# EAGLE library part CC2520 (library chipcon-ti-V2)
2.4 GHZ IEEE 802.15.4/ZIGBEE® RF TRANSCEIVER
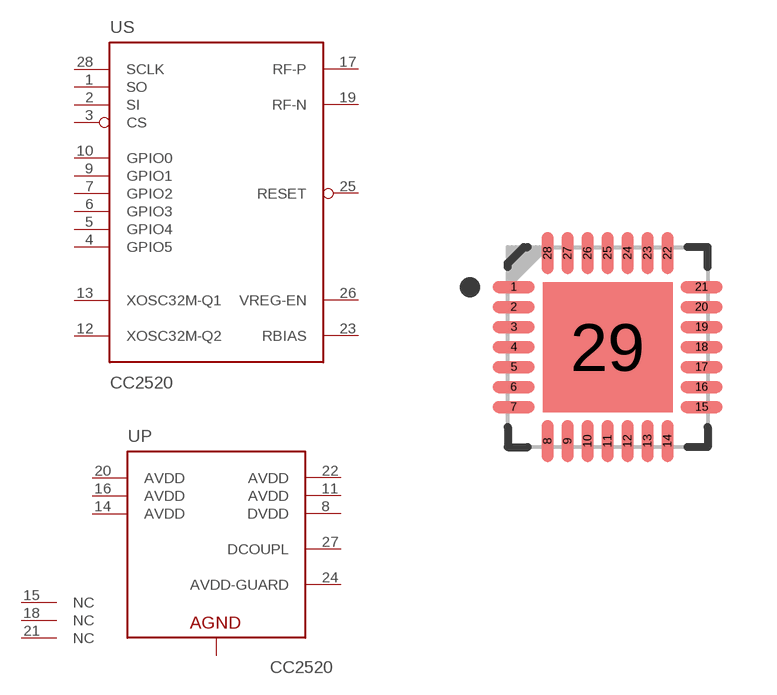
[diagram p12: symbol with the pads of QFN50P500X500X100-29N; footprint QFN50P500X500X100-29N]

Designator prefix -; gates S=CC2520 P=CC2520-PWR G$1=CC2520-NC

## CC2520  [QFN50P500X500X100-29N]
1  S:SO  out
2  S:SI  in
3  S:CS  in
4  S:GPIO5
5  S:GPIO4
6  S:GPIO3
7  S:GPIO2
8  P:DVDD  pwr
9  S:GPIO1  out
10  S:GPIO0  out
11  P:AVDD  pwr
12  S:XOSC32M-Q2  out
13  S:XOSC32M-Q1  in
14  P:AVDD  pwr
15  G$1:NC  nc
16  P:AVDD  pwr
17  S:RF-P
18  G$1:NC  nc
19  S:RF-N
20  P:AVDD  pwr
21  G$1:NC  nc
22  P:AVDD  pwr
23  S:RBIAS
24  P:AVDD-GUARD  pwr
25  S:RESET  in
26  S:VREG-EN  in
27  P:DCOUPL  pwr
28  S:SCLK  in
29  P:AGND  pwr

## Footprint QFN50P500X500X100-29N (pad centres in mm)
QFN,0.50mm pitch,square;28 pin,5.00mm L X 5.00mm W X 1.00mm H body (w/thermal tab) IPC7351A for VQFN28
smd 1.05 x 0.3: 1 -2.35,1.5; 2 -2.35,1; 3 -2.35,0.5; 4 -2.35,0; 5 -2.35,-0.5; 6 -2.35,-1; 7 -2.35,-1.5; 15 2.35,-1.5; 16 2.35,-1; 17 2.35,-0.5; 18 2.35,0; 19 2.35,0.5; 20 2.35,1; 21 2.35,1.5
smd 0.3 x 1.05: 8 -1.5,-2.35; 9 -1,-2.35; 10 -0.5,-2.35; 11 0,-2.35; 12 0.5,-2.35; 13 1,-2.35; 14 1.5,-2.35; 22 1.5,2.35; 23 1,2.35; 24 0.5,2.35; 25 0,2.35; 26 -0.5,2.35; 27 -1,2.35; 28 -1.5,2.35
smd 3.25 x 3.25: 29 0,0